# Altium schematic symbol library Fuses.SchLib: 2 symbols
Pins are listed as number, name and electrical type; pins without a type are passive.

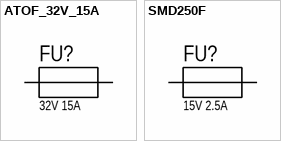
[diagram p0: symbols ATOF_32V_15A to SMD250F]

## ATOF_32V_15A
designator FU?, comment value 32V 15A  (hidden comment: ATOF арт. 0287015.PXCN Littelfuse)
Fuse 32V 15A
footprint ATOF_15A
pins: 0 hidden to GND, 1, 2

## SMD250F
designator FU?, comment value 15V 2.5A  (hidden comment: PolySwitch арт. 15-2920-2 Littelfuse)
Fuse 15V 2.5A
footprint SMD250F
pins: 1, 2